# EAGLE library part SPARKFUN-IC-AMPLIFIERS_LMV358 (library PICBoardv1.0)
IC LMV358 DUAL OP AMP Jellybean rail-to-rail output op-amp SparkFun Products SparkFun PicoBoard <https://www.sparkfun.com/products/11888> (WIG-11888) SparkFun Vernier Interface Shield <https://www.sparkfun.com/products/12858> (DEV-12858) SparkFun Blynk Board - ESP8266 <https://www.sparkfun.com/products/13794> (WRL-13794) SparkFun Digital Sandbox <https://www.sparkfun.com/products/12651> (DEV-12651 RoHS)
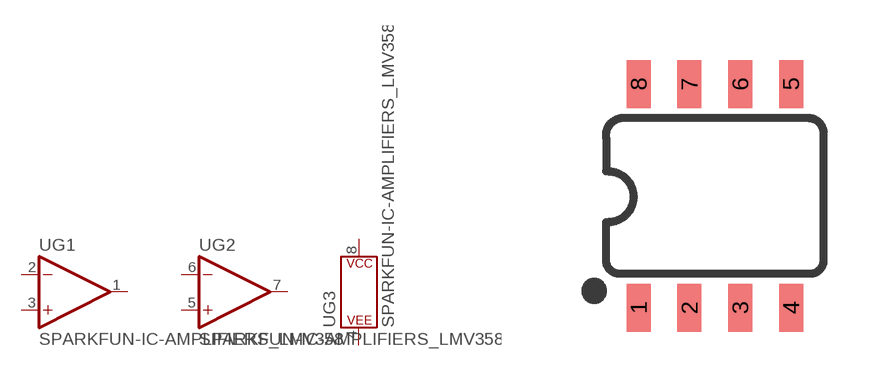
[diagram p3: symbol with the pads of SPARKFUN-IC-AMPLIFIERS_SO08; footprint SPARKFUN-IC-AMPLIFIERS_SO08]

Designator prefix U; gates G1=SPARKFUN-IC-AMPLIFIERS_OP-AMP G2=SPARKFUN-IC-AMPLIFIERS_OP-AMP G3=SPARKFUN-IC-AMPLIFIERS_POWER_CONSORT

## SPARKFUN-IC-AMPLIFIERS_LMV358SOIC (PROD_ID: IC-09657; VALUE: LMV358)  [SPARKFUN-IC-AMPLIFIERS_SO08]
1  G1:OUT  out
2  G1:-IN  in
3  G1:+IN  in
4  G3:P$V-
5  G2:+IN  in
6  G2:-IN  in
7  G2:OUT  out
8  G3:P$V+

## Footprint SPARKFUN-IC-AMPLIFIERS_SO08 (pad centres in mm)
SOIC, 0.15 inch width
smd 0.6 x 1.2: 1 -1.905,-2.8; 2 -0.635,-2.8; 3 0.635,-2.8; 4 1.905,-2.8; 5 1.905,2.8; 6 0.635,2.8; 7 -0.635,2.8; 8 -1.905,2.8